# Altium schematic symbol library BQ25172DSGR.SchLib: 1 symbol
Pins are listed as number, name and electrical type; pins without a type are passive.

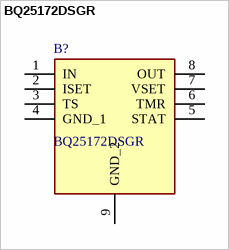
[diagram p0: symbol BQ25172DSGR]

## BQ25172DSGR
designator B?
Battery Management 0.8-A, one- to six-cell NiMH stand-alone linear charger in a QFN package; Manufacturer_Name: Texas Instruments; Geometry.Height: 0.8mm; Mouser Part Number: 595-BQ25172DSGR; Mouser Price/Stock: https://www.mouser.co.uk/ProductDetail/Texas-Instruments/BQ25172DSGR?qs=tlsG%2FOw5FFgckLJXIVn4PA%3D%3D; Manufacturer_Part_Number: BQ25172DSGR; Datasheet Link: https://www.arrow.com/en/products/bq25172dsgr/texas-instruments?region=nac
footprint SON50P200X200X80-9N
pins: 1 IN, 2 ISET, 3 TS, 4 GND_1, 5 STAT, 6 TMR, 7 VSET, 8 OUT, 9 GND_2